# Altium footprint library 74441-0001.PcbLib: 1 footprints
Each footprint in its own frame and in the unit in brackets; x right, y up, seen from the top. Pads: shape width x height; smd on the part's side, far side on the other; paste and mask are expansions set on the pad; w line width, h text height; cw(c..) or ccw(c..) is an arc to the next point about the centre after c.
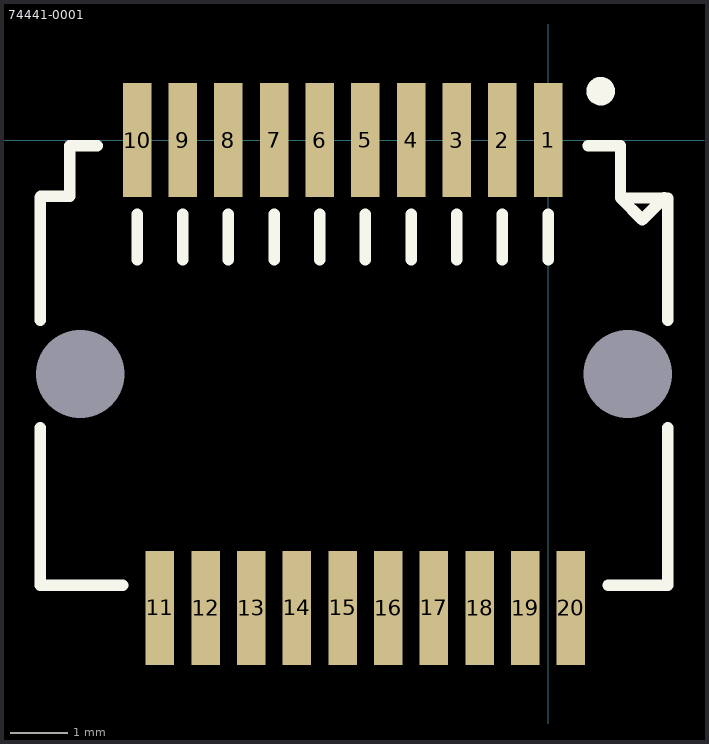
[diagram p0: the footprint, top view; thin cyan lines are the x and y axes]

## 74441-0001 [mm] "Host SFP/SFP+ connector"
pads (22):
  rect 0.5x2 smd: 1(0,0) 2(-0.8,0) 3(-1.6,0) 4(-2.4,0) 5(-3.2,0) 6(-4,0) 7(-4.8,0) 8(-5.6,0) 9(-6.4,0) 10(-7.2,0) 11(-6.8,-8.2) 12(-6,-8.2) 13(-5.2,-8.2) 14(-4.4,-8.2) 15(-3.6,-8.2) 16(-2.8,-8.2) 17(-2,-8.2) 18(-1.2,-8.2) 19(-0.4,-8.2) 20(0.4,-8.2)
  round 0.5 hole 1.55 unplated mask+0.525: ""(-8.2,-4.1) ""(1.4,-4.1)
Top Overlay:
  circle w0.25: c0.923,0.855 r0.125
  lines w0.2: -8.9,-5.044 -8.9,-7.8 -7.45,-7.8 ; -8.9,-3.156 -8.9,-1 ; -8.89,-0.989 -8.382,-0.989 -8.382,-0.1 -7.9,-0.1 ; -7.2,-2.1 -7.2,-1.3 ; -6.4,-2.1 -6.4,-1.3 ; -5.6,-2.1 -5.6,-1.3 ; -4.8,-2.1 -4.8,-1.3 ; -4,-2.1 -4,-1.3 ; -3.2,-2.1 -3.2,-1.3 ; -2.4,-2.1 -2.4,-1.3 ; -1.6,-2.1 -1.6,-1.3 ; -0.8,-2.1 -0.8,-1.3 ; 0,-2.1 0,-1.3 ; 0.7,-0.1 1.27,-0.1 1.27,-1.016 ; 1.05,-7.8 2.1,-7.8 2.1,-5.044 ; 2.036,-1.012 1.651,-1.397 1.27,-1.016 ; 2.1,-3.156 2.1,-1.016 1.27,-1.016
Mechanical 16:
  text "'.Designator'" at -7.039,-4.849 h2
3D body "74441-0001.stp": height 5.37, standoff -0.9, extent -8.895,-8.71 2.105,0.44